# EAGLE library part XF2M-4515-1A (library OMRON_ELECTRONIC_COMPONENTS_By_element14_Batch_1)
FFC/FPC CONNECTOR, RECEPTACLE 45POS 1ROW
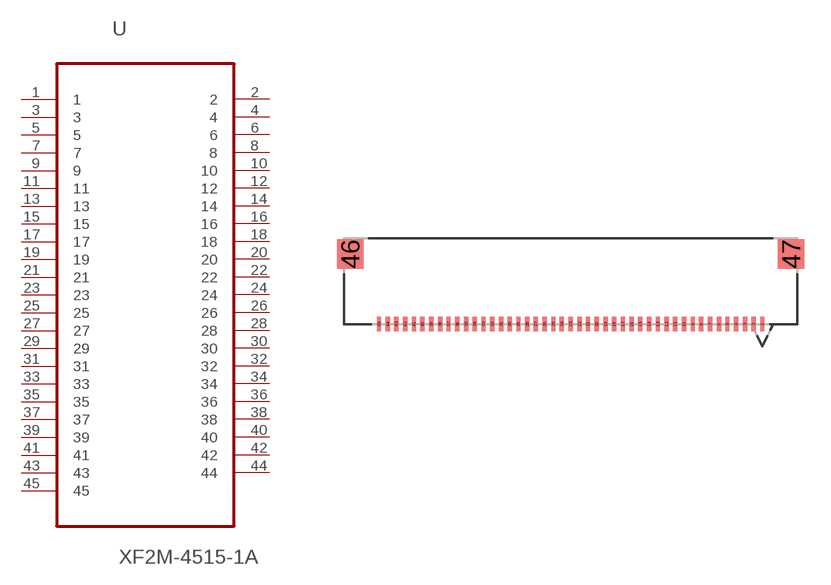
[diagram p7: symbol with the pads of OMRON_XF2M-4515-1A; footprint OMRON_XF2M-4515-1A]

Designator prefix U

## XF2M-4515-1A (MPN: XF2M-4515-1A; OC_FARNELL: 1112563; OC_NEWARK: 05M2035; PACKAGE: FFC/FPC CONNECTOR, RECEPTACLE 45POS 1ROW; SUPPLIER: OMRON ELECTRONIC COMPONENTS)  [OMRON_XF2M-4515-1A]
1  1  pas
2  2  pas
3  3  pas
4  4  pas
5  5  pas
6  6  pas
7  7  pas
8  8  pas
9  9  pas
10  10  pas
11  11  pas
12  12  pas
13  13  pas
14  14  pas
15  15  pas
16  16  pas
17  17  pas
18  18  pas
19  19  pas
20  20  pas
21  21  pas
22  22  pas
23  23  pas
24  24  pas
25  25  pas
26  26  pas
27  27  pas
28  28  pas
29  29  pas
30  30  pas
31  31  pas
32  32  pas
33  33  pas
34  34  pas
35  35  pas
36  36  pas
37  37  pas
38  38  pas
39  39  pas
40  40  pas
41  41  pas
42  42  pas
43  43  pas
44  44  pas
45  45  pas

## Footprint OMRON_XF2M-4515-1A (pad centres in mm)
smd 0.254 x 0.813: 1 10.998,2.438; 2 10.49,2.438; 3 10.008,2.438; 4 9.5,2.438; 5 8.992,2.438; 6 8.509,2.438; 7 8.001,2.438; 8 7.493,2.438; 9 7.01,2.438; 10 6.502,2.438; 11 5.994,2.438; 12 5.512,2.438; 13 5.004,2.438; 14 4.496,2.438; 15 3.988,2.438; 16 3.505,2.438; 17 2.997,2.438; 18 2.489,2.438; 19 2.007,2.438; 20 1.499,2.438; 21 0.991,2.438; 22 0.508,2.438; 23 0,2.438; 24 -0.508,2.438; 25 -0.991,2.438; 26 -1.499,2.438; 27 -2.007,2.438; 28 -2.489,2.438; 29 -2.997,2.438; 30 -3.505,2.438; 31 -3.988,2.438; 32 -4.496,2.438; 33 -5.004,2.438; 34 -5.512,2.438; 35 -5.994,2.438; 36 -6.502,2.438; 37 -7.01,2.438; 38 -7.493,2.438; 39 -8.001,2.438; 40 -8.509,2.438; 41 -8.992,2.438; 42 -9.5,2.438; 43 -10.008,2.438; 44 -10.49,2.438; 45 -10.998,2.438
smd 1.524 x 1.702: 46 -12.649,6.452; 47 12.649,6.452